# EAGLE library part MCP42X1 (library Synapseware-transistors)
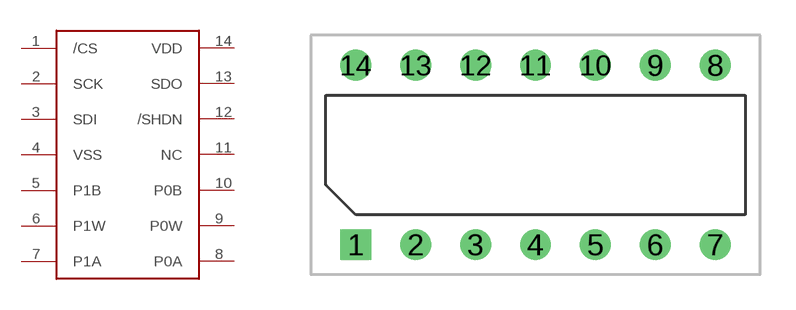
[diagram p25: symbol with the pads of PDIP-14; footprint PDIP-14]

Designator prefix -

## MCP42X1  [PDIP-14]
1  /CS
2  SCK
3  SDI
4  VSS
5  P1B
6  P1W
7  P1A
8  P0A
9  P0W
10  P0B
11  NC
12  /SHDN
13  SDO
14  VDD

## Footprint PDIP-14 (pad centres in mm)
drill 0.8 square: 1 0,0
drill 0.8: 2 2.54,0; 3 5.08,0; 4 7.62,0; 5 10.16,0; 6 12.7,0; 7 15.24,0; 8 15.24,7.62; 9 12.7,7.62; 10 10.16,7.62; 11 7.62,7.62; 12 5.08,7.62; 13 2.54,7.62; 14 0,7.62